# EAGLE library part CONN_RJ45 (library GPLIB_CONN)
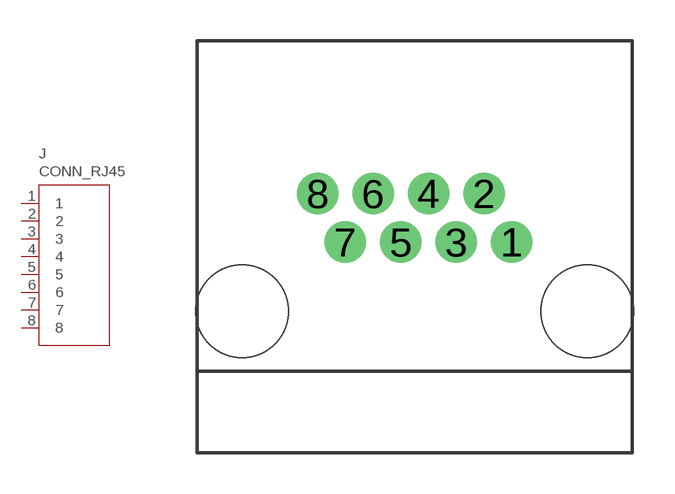
[diagram p63: symbol with the pads of CONN_RJ45_R-RJ45R08P-A004; footprint CONN_RJ45_R-RJ45R08P-A004]

Designator prefix J

## CONN_RJ45_R-RJ45R08P-A004  [CONN_RJ45_R-RJ45R08P-A004]
1  1
2  2
3  3
4  4
5  5
6  6
7  7
8  8

## Footprint CONN_RJ45_R-RJ45R08P-A004 (pad centres in mm)
drill 0.914 pad 1.524: 1 3.57,-0.89; 2 2.55,0.89; 3 1.53,-0.89; 4 0.51,0.89; 5 -0.51,-0.89; 6 -1.53,0.89; 7 -2.55,-0.89; 8 -3.57,0.89
hole 3.4 at -6.35,-3.43
hole 3.4 at 6.35,-3.43